# EAGLE library part TLV61225 (library dc-dc)
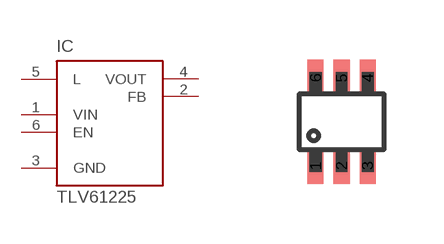
[diagram p0: symbol with the pads of SC-70-6; footprint SC-70-6]

Designator prefix IC

## TLV61225  [SC-70-6]
1  VIN  pwr
2  FB  in
3  GND  pwr
4  VOUT  out
5  L  in
6  EN  in

## Footprint SC-70-6 (pad centres in mm)
smd 0.4 x 0.9: 1 -0.65,-1.1; 2 0,-1.1; 3 0.65,-1.1; 4 0.65,1.1; 5 0,1.1; 6 -0.65,1.1